# EAGLE library part CST2-JTAG (library IDC)
Стандартный JTAG коннектор для плат Cansat-T2
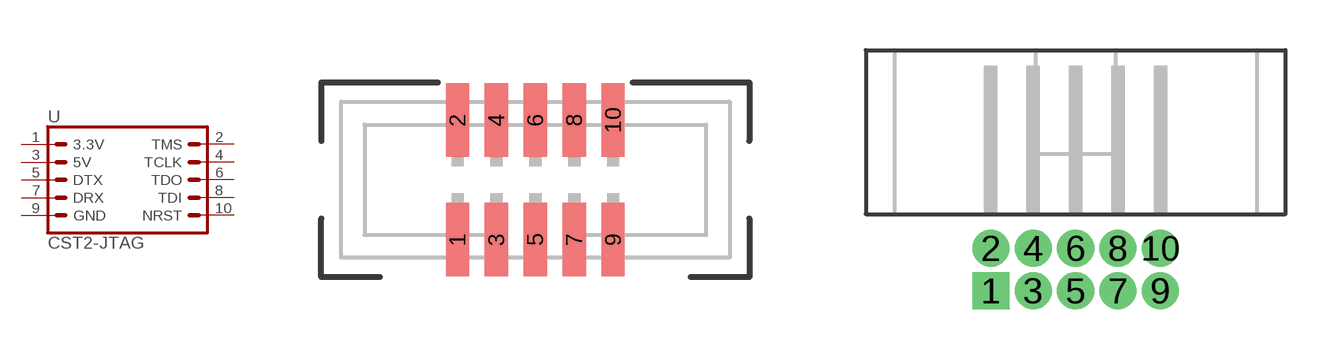
[diagram p3: symbol with the pads of 2X5-1.27MM-SMT; footprints 2X5-1.27MM-SMT, 2X5-1.27MM-R]

Designator prefix -

## CST2-JTAG  [2X5-1.27MM-SMT]
1  3.3V  pas
2  TMS  pas
3  5V  pas
4  TCLK  pas
5  DTX  pas
6  TDO  pas
7  DRX  pas
8  TDI  pas
9  GND  pas
10  NRST  pas

## CST2-JTAG2X5-1.27MM-R  [2X5-1.27MM-R]
Pads as for 2X5-1.27MM-SMT

## Footprint 2X5-1.27MM-SMT (pad centres in mm)
1.27мм SMT разъем IDC на 10 пинов Удобно использовать для отладки Можно купить вот тут https://ru.aliexpress.com/item/32787313045.html
smd 0.76 x 2.4: 1 -2.54,-1.95; 2 -2.54,1.95; 3 -1.27,-1.95; 4 -1.27,1.95; 5 0,-1.95; 6 0,1.95; 7 1.27,-1.95; 8 1.27,1.95; 9 2.54,-1.95; 10 2.54,1.95

## Footprint 2X5-1.27MM-R (pad centres in mm)
1.27мм угловой сквозной разъем IDC на 10 пинов Удобно использовать для отладки Можно купить вот тут https://ru.aliexpress.com/item/32991807690.html
drill 0.6 square: 1 -2.54,-0.635
drill 0.6: 2 -2.54,0.635; 3 -1.27,-0.635; 4 -1.27,0.635; 5 0,-0.635; 6 0,0.635; 7 1.27,-0.635; 8 1.27,0.635; 9 2.54,-0.635; 10 2.54,0.635